# Altium schematic symbol library Res_Yageo_RC0402FR-132K49L_2.48kOhm.SchLib: 1 symbol
Pins are listed as number, name and electrical type; pins without a type are passive.

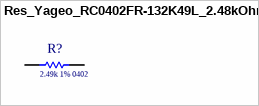
[diagram p0: symbol Res_Yageo_RC0402FR-132K49L_2.48kOhm]

## Res_Yageo_RC0402FR-132K49L_2.48kOhm
designator R?  Resistance: 2.49k 1% 0402  (hidden comment: Res_Yageo_RC0402FR-132K49L_2.48kOhm)
Thick Film Resistors - SMD 2.49K ohm 1% 50V General Purpose; Supplier Part Number 1: 603-RC0402FR-132K49L; Supplier 1: Mouser
footprint Res_Yageo_RC0402FR-132K49L_2.48kOhm
pins: 1, 2